# Altium schematic symbol library EL-sense_Comparator.SchLib: 6 symbols
Pins are listed as number, name and electrical type; pins without a type are passive.

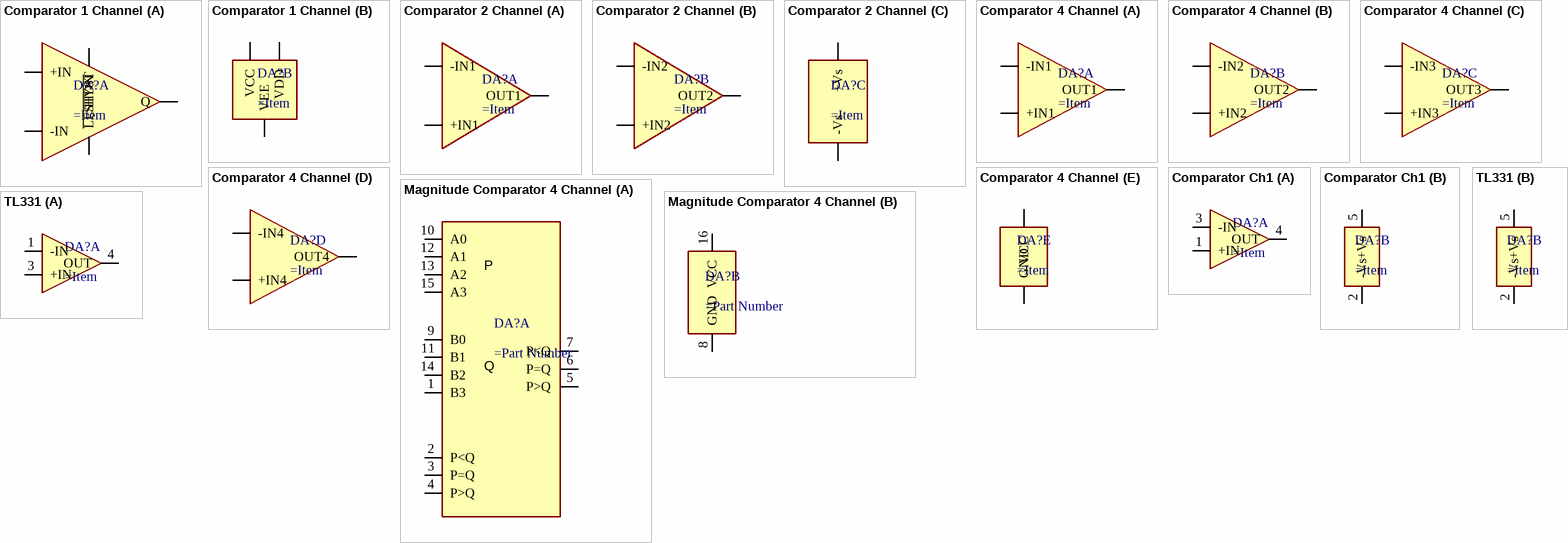
[diagram p0: symbols Comparator 1 Channel to TL331]

## Comparator 1 Channel
designator DA?
part A pins: 2 +IN, 3 -IN, 4 ~{SHDN}, 5 ~{LE}/HYST, 7 Q
part B pins: 1 VCC, 6 VEE, 8 VDD

## Comparator 2 Channel
designator DA?
part A pins: +IN1, -IN1, OUT1
part B pins: +IN2, -IN2, OUT2
part C pins: +Vs, -Vs

## Comparator 4 Channel
designator DA?
part A pins: +IN1, -IN1, OUT1
part B pins: +IN2, -IN2, OUT2
part C pins: +IN3, -IN3, OUT3
part D pins: +IN4, -IN4, OUT4
part E pins: GND, VCC

## Comparator Ch1
designator DA?
part A pins: 1 +IN, 3 -IN, 4 OUT
part B pins: 2 -Vs, 5 +Vs

## Magnitude Comparator 4 Channel
designator DA?
part A pins: 1 B3, 2 P<Q, 3 P=Q, 4 P>Q, 5 P>Q, 6 P=Q, 7 P<Q, 9 B0, 10 A0, 11 B1, 12 A1, 13 A2, 14 B2, 15 A3
part B pins: 8 GND, 16 VCC
part A text: P; Q

## TL331
designator DA?
part A pins: 1 -IN, 3 +IN, 4 OUT
part B pins: 2 -Vs, 5 +Vs